# Altium footprint library mikroBUS_socket_standard.PcbLib: 2 footprints
Each footprint in its own frame and in the unit in brackets; x right, y up, seen from the top. Pads: shape width x height; smd on the part's side, far side on the other; paste and mask are expansions set on the pad; w line width, h text height; cw(c..) or ccw(c..) is an arc to the next point about the centre after c.
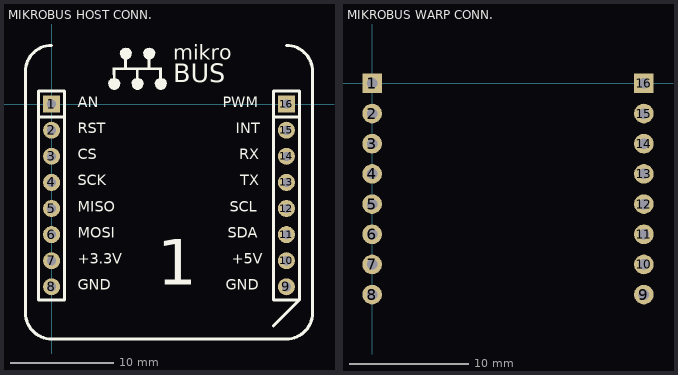
[diagram p0: the footprints below, top view; thin cyan lines are the x and y axes]

## MIKROBUS HOST CONN. [mil]
height 47.24
pads (16):
  rect 65x65 hole 35: 1(0,0) 16(900,0)
  round 65 hole 35: 2(0,-100) 3(0,-200) 4(0,-300) 5(0,-400) 6(0,-500) 7(0,-600) 8(0,-700) 9(900,-700) 10(900,-600) 11(900,-500) 12(900,-400) 13(900,-300) 14(900,-200) 15(900,-100)
Top Overlay:
  drawing of 650 lines, arcs and shapes, not listed
  text "SDA" at 674.28,-525 h70
  text "RST" at 100,-125 h70
  text "CS" at 100,-225 h70
  text "MISO" at 100,-425 h70
  text "SCK" at 100,-325 h70
  text "MOSI" at 100,-525 h70
  text "+3.3V" at 100,-625 h70
  text "GND" at 100,-725 h70
  text "SCL" at 683.48,-425 h70
  text "INT" at 706.49,-125 h70
  text "RX" at 718.67,-225 h70
  text "TX" at 722.17,-325 h70
  text "GND" at 668,-725 h70
  text "+5V" at 691,-625 h70
  text "AN" at 100,-25 h70
  text "PWM" at 656.79,-25 h70
  text "mikro" at 467,150.54 h99
  text "BUS" at 467,58.51 h121.5
  text "1" at 405,-750 h300
3D body "F1X8.stp": height 334.65, standoff -124.02, extent 850.79,-754.92 949.21,54.92
3D body "F1X8.stp": height 334.65, standoff -124.02, extent -49.21,-754.92 49.21,54.92

## MIKROBUS WARP CONN. [mil]
height 47.24
pads (16):
  rect 65x65 hole 35: 1(0,0) 16(900,0)
  round 65 hole 35: 2(0,-100) 3(0,-200) 4(0,-300) 5(0,-400) 6(0,-500) 7(0,-600) 8(0,-700) 9(900,-700) 10(900,-600) 11(900,-500) 12(900,-400) 13(900,-300) 14(900,-200) 15(900,-100)
Bottom Overlay:
  lines w8: -47,-750 50,-750 50,50 -47,50 ; 947,-750 850,-750 850,50 947,50
  text "SCL" at 810,-420 h35
  text "INT" at 810,-120 h35
  text "SDI" at 170,-520 h35
  text "CS" at 145,-220 h35
  text "GND" at 183,-720 h35
  text "3V3" at 180,-620 h35
  text "SDO" at 180,-420 h35
  text "SDA" at 810,-520 h35
  text "RST" at 180,-120 h35
  text "PWM" at 810,-20 h35
  text "GND" at 810,-720 h35
  text "5V" at 810,-620 h35
  text "RX" at 810,-320 h35
  text "TX" at 810,-220 h35
  text "AN" at 150,-20 h35
  text "SCK" at 180,-320 h35
3D body "6194.stp": height 93.65, standoff -384.74, extent -48.82,-751.97 51.18,48.03
3D body "6194.stp": height 93.65, standoff -384.74, extent 850,-751.97 950,48.03